# EAGLE library part OPA2350 (library EE445L)
2.7V to 5.5V Rail-to-Rail I/O Dual Amplifier High-Speed 38MHz, Single-Supply, slew rate 22V/us, 500uV offset, 4uV noise
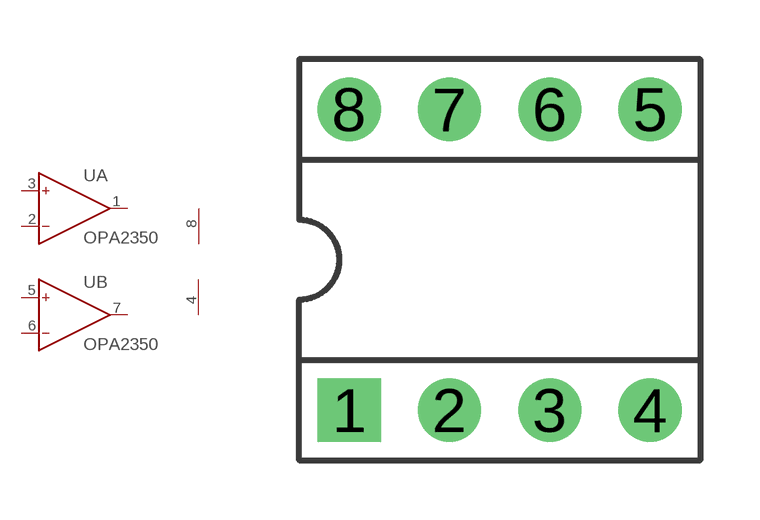
[diagram p3: symbol with the pads of DIL08; footprint DIL08]

Designator prefix U; gates A=OP B=OP P=PWR+-

## OPA2350N (OC_FARNELL: unknown; OC_NEWARK: unknown)  [DIL08]
1  A:OUT  out
2  A:IN-  in
3  A:IN+  in
4  P:V-  pwr
5  B:IN+  in
6  B:IN-  in
7  B:OUT  out
8  P:V+  pwr

## Footprint DIL08 (pad centres in mm)
Dual In Line 0.8mm holes, 2.54mm=100mil spacing
drill 0.8 pad 1.6 square: 1 -3.81,-3.81
drill 0.8 pad 1.6: 2 -1.27,-3.81; 3 1.27,-3.81; 4 3.81,-3.81; 5 3.81,3.81; 6 1.27,3.81; 7 -1.27,3.81; 8 -3.81,3.81